# Altium footprint library Adapter.PcbLib: 3 footprints
Each footprint in its own frame and in the unit in brackets; x right, y up, seen from the top. Pads: shape width x height; smd on the part's side, far side on the other; paste and mask are expansions set on the pad; w line width, h text height; cw(c..) or ccw(c..) is an arc to the next point about the centre after c.
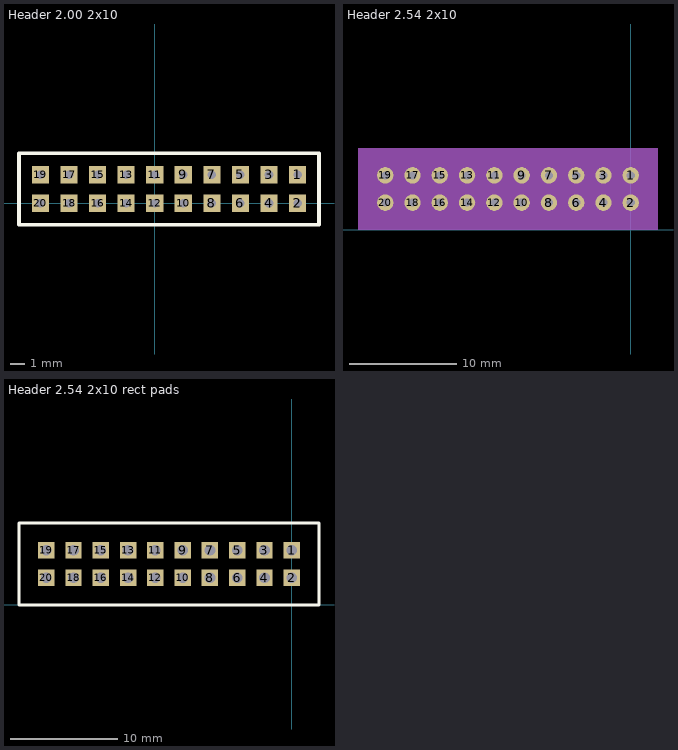
[diagram p0: the footprints below, top view; thin cyan lines are the x and y axes]

## Header 2.00 2x10 [mm]
pads (20):
  rect 1.2x1.2 hole 0.6: 1(10,2) 2(10,0) 3(8,2) 4(8,0) 5(6,2) 6(6,0) 7(4,2) 8(4,0) 9(2,2) 10(2,0) 11(0,2) 12(0,0) 13(-2,2) 14(-2,0) 15(-4,2) 16(-4,0) 17(-6,2) 18(-6,0) 19(-8,2) 20(-8,0)
Top Overlay:
  lines w0.254: -9.5,-1.5 -9.5,3.5 11.5,3.5 11.5,-1.5 -9.5,-1.5

## Header 2.54 2x10 [mil]
pads (20):
  round 60 hole 30: 1(0,200) 2(0,100) 3(-100,200) 4(-100,100) 5(-200,200) 6(-200,100) 7(-300,200) 8(-300,100) 9(-400,200) 10(-400,100) 11(-500,200) 12(-500,100) 13(-600,200) 14(-600,100) 15(-700,200) 16(-700,100) 17(-800,200) 18(-800,100) 19(-900,200) 20(-900,100)
Mechanical 1:
  rectangle: -1000,0 100,300

## Header 2.54 2x10 rect pads [mil]
pads (20):
  rect 60x60 hole 39.37: 1(0,200) 2(0,100) 3(-100,200) 4(-100,100) 5(-200,200) 6(-200,100) 7(-300,200) 8(-300,100) 9(-400,200) 10(-400,100) 11(-500,200) 12(-500,100) 13(-600,200) 14(-600,100) 15(-700,200) 16(-700,100) 17(-800,200) 18(-800,100) 19(-900,200) 20(-900,100)
Top Overlay:
  lines w10: -1000,0 100,0 100,300 -1000,300 -1000,0